# Altium schematic symbol library speed_robot.SchLib: 1 symbol
Pins are listed as number, name and electrical type; pins without a type are passive.

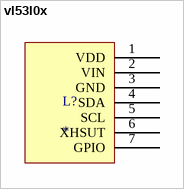
[diagram p0: symbol vl53l0x]

## vl53l0x
designator L?
footprint vl53l0x
pins: 1 VDD, 2 VIN, 3 GND, 4 SDA, 5 SCL, 6 XHSUT, 7 GPIO